# Altium schematic symbol library linear_motor.SCHLIB: 40 symbols
Pins are listed as number, name and electrical type; pins without a type are passive.

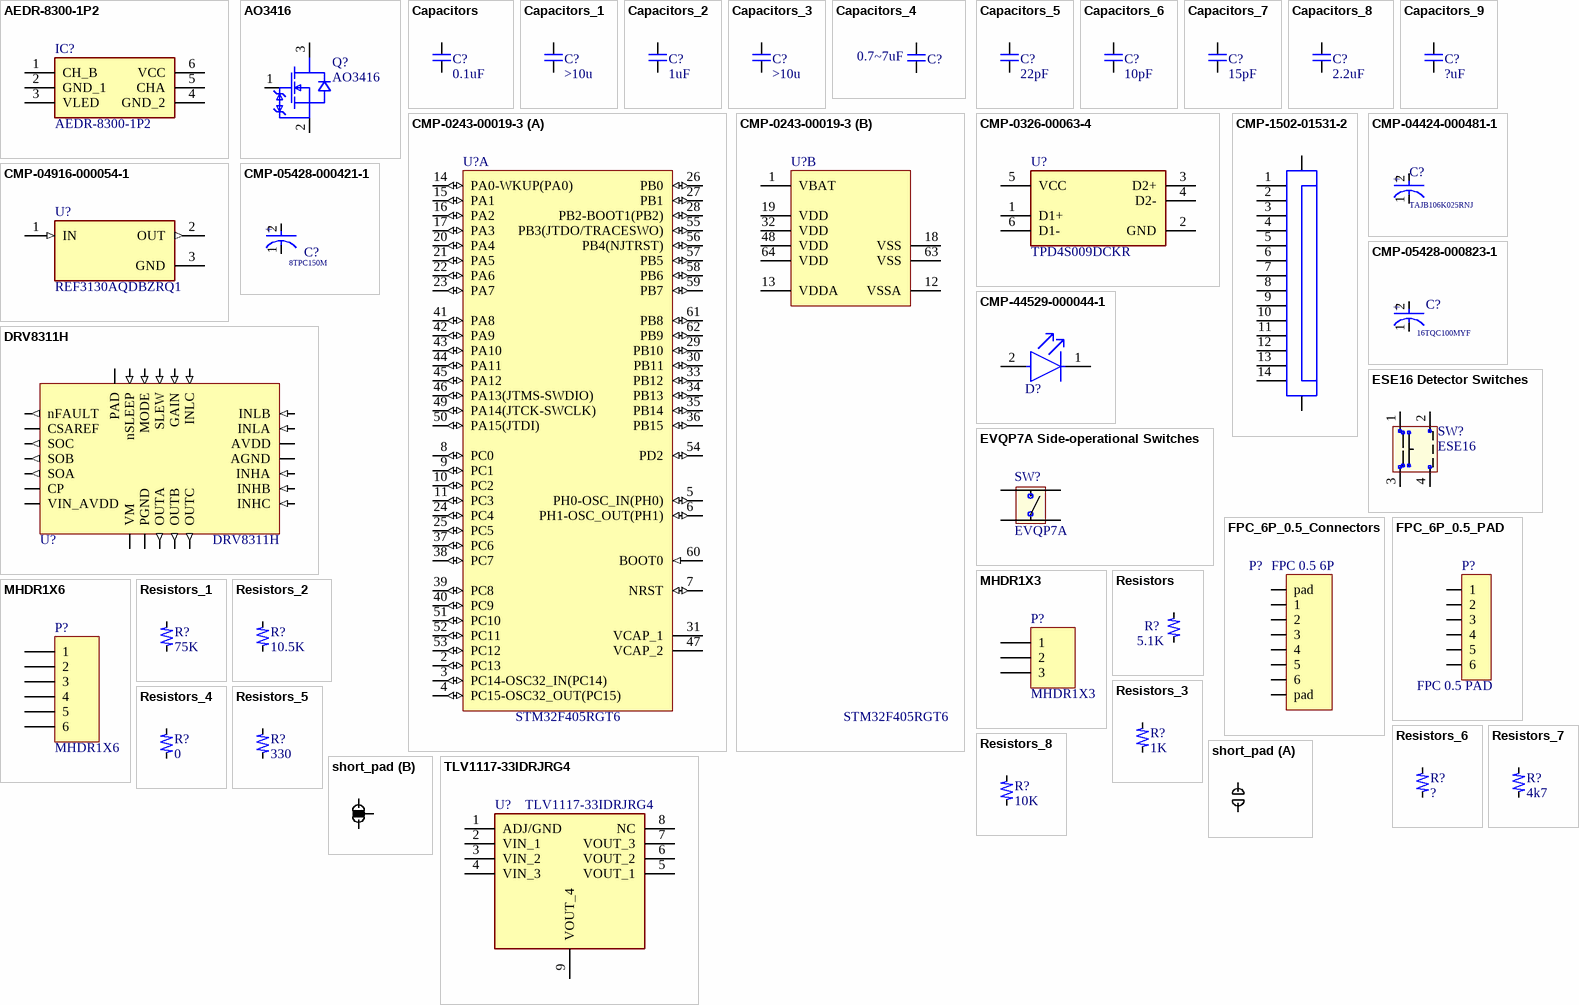
[diagram p0: symbols AEDR-8300-1P2 to TLV1117-33IDRJRG4]

## AEDR-8300-1P2
designator IC?
Integrated Circuit; Manufacturer_Name: Avago Technologies; Datasheet Link: https://docs.broadcom.com/docs/AV02-0088EN; Height: 1.78mm; Manufacturer_Part_Number: AEDR-8300-1P2; Mouser Part Number: 630-AEDR-8300-1P2; Mouser Price/Stock: https://www.mouser.com/Search/Refine.aspx?Keyword=630-AEDR-8300-1P2
footprint AEDR83001P2
pins: 1 CH_B, 2 GND_1, 3 VLED, 4 GND_2, 5 CHA, 6 VCC

## AO3416
designator Q?
footprint SOT23-3
pins: 1 G, 2 S, 3 D

## Capacitors
designator C?, comment 0.1uF
footprint 0201 R (1/20W)
footprint 0402 R (1/16W)
footprint 0603 R (1/10W)
footprint 0805 R (1/8W)
footprint 01005 R (1/32W)
footprint 1206 R (1/4W)
footprint 1210 R (1/2W)
footprint 1812 R (1/2W)
footprint 2010 R (3/4W)
footprint 2512 R (1W)
footprint 2.5 DIP CAP
pins: 1, 2

## Capacitors_1
designator C?, comment >10u
有極性電容
footprint 0201 R (1/20W)
footprint 0402 R (1/16W)
footprint 0603 R (1/10W)
footprint 0805 R (1/8W)
footprint 01005 R (1/32W)
footprint 1206 R (1/4W)
footprint 1210 R (1/2W)
footprint 1812 R (1/2W)
footprint 2010 R (3/4W)
footprint 2512 R (1W)
footprint 2.5 DIP CAP
pins: 1, 2

## Capacitors_2
designator C?, comment 1uF
footprint 0201 R (1/20W)
footprint 0402 R (1/16W)
footprint 0603 R (1/10W)
footprint 0805 R (1/8W)
footprint 01005 R (1/32W)
footprint 1206 R (1/4W)
footprint 1210 R (1/2W)
footprint 1812 R (1/2W)
footprint 2010 R (3/4W)
footprint 2512 R (1W)
footprint 2.5 DIP CAP
pins: 1, 2

## Capacitors_3
designator C?, comment >10u
footprint 0201 R (1/20W)
footprint 0402 R (1/16W)
footprint 0603 R (1/10W)
footprint 0805 R (1/8W)
footprint 01005 R (1/32W)
footprint 1206 R (1/4W)
footprint 1210 R (1/2W)
footprint 1812 R (1/2W)
footprint 2010 R (3/4W)
footprint 2512 R (1W)
footprint 2.5 DIP CAP
pins: 1, 2

## Capacitors_4
designator C?, comment 0.7~7uF
footprint 0201 R (1/20W)
footprint 0402 R (1/16W)
footprint 0603 R (1/10W)
footprint 0805 R (1/8W)
footprint 01005 R (1/32W)
footprint 1206 R (1/4W)
footprint 1210 R (1/2W)
footprint 1812 R (1/2W)
footprint 2010 R (3/4W)
footprint 2512 R (1W)
footprint 2.5 DIP CAP
pins: 1, 2

## Capacitors_5
designator C?, comment 22pF
footprint 0201 R (1/20W)
footprint 0402 R (1/16W)
footprint 0603 R (1/10W)
footprint 0805 R (1/8W)
footprint 01005 R (1/32W)
footprint 1206 R (1/4W)
footprint 1210 R (1/2W)
footprint 1812 R (1/2W)
footprint 2010 R (3/4W)
footprint 2512 R (1W)
footprint 2.5 DIP CAP
pins: 1, 2

## Capacitors_6
designator C?, comment 10pF
footprint 0201 R (1/20W)
footprint 0402 R (1/16W)
footprint 0603 R (1/10W)
footprint 0805 R (1/8W)
footprint 01005 R (1/32W)
footprint 1206 R (1/4W)
footprint 1210 R (1/2W)
footprint 1812 R (1/2W)
footprint 2010 R (3/4W)
footprint 2512 R (1W)
footprint 2.5 DIP CAP
pins: 1, 2

## Capacitors_7
designator C?, comment 15pF
footprint 0201 R (1/20W)
footprint 0402 R (1/16W)
footprint 0603 R (1/10W)
footprint 0805 R (1/8W)
footprint 01005 R (1/32W)
footprint 1206 R (1/4W)
footprint 1210 R (1/2W)
footprint 1812 R (1/2W)
footprint 2010 R (3/4W)
footprint 2512 R (1W)
footprint 2.5 DIP CAP
pins: 1, 2

## Capacitors_8
designator C?, comment 2.2uF
footprint 0201 R (1/20W)
footprint 0402 R (1/16W)
footprint 0603 R (1/10W)
footprint 0805 R (1/8W)
footprint 01005 R (1/32W)
footprint 1206 R (1/4W)
footprint 1210 R (1/2W)
footprint 1812 R (1/2W)
footprint 2010 R (3/4W)
footprint 2512 R (1W)
footprint 2.5 DIP CAP
pins: 1, 2

## Capacitors_9
designator C?, comment ?uF
footprint 0201 R (1/20W)
footprint 0402 R (1/16W)
footprint 0603 R (1/10W)
footprint 0805 R (1/8W)
footprint 01005 R (1/32W)
footprint 1206 R (1/4W)
footprint 1210 R (1/2W)
footprint 1812 R (1/2W)
footprint 2010 R (3/4W)
footprint 2512 R (1W)
footprint 2.5 DIP CAP
pins: 1, 2

## CMP-0243-00019-3
designator U?, comment STM32F405RGT6
ARM Cortex-M4 32-bit MCU+FPU, 210 DMIPS, 1024 kB Flash, 192 kB Internal RAM, 51 I/Os, 64-pin LQFP, -40 to 85 degC, Tray; Manufacturer: STMicroelectronics; Supply Voltage(Vcc) min (V): 1.8; Supply Voltage(Vcc) max (V): 3.6; Internal RAM Size (kB): 192; I/Os (High Current): 51; D/A Converter: 2x12-bit; FLASH Size (Prog) (kB): 1024; Operating Frequency(F) (Processor speed) (MHz): 168; ComponentLink2Description: Datasheet; PackageVersion: Rev. 4, 06/2013; DatasheetVersion: Rev. 4; Core: ARM Cortex-M4; ComponentLink2URL: http://www.st.com/st-web-ui/static/active/en/resource/technical/document/datasheet/DM00037051.pdf; PackageReference: LQFP64; Packing: Tray; ComponentLink1Description: Manufacturer URL; ComponentLink3URL: http://www.st.com/st-web-ui/static/active/en/resource/technical/document/datasheet/DM00037051.pdf; ComponentLink3Description: Package Specification; Mounting Technology: Surface Mount; ComponentLink1URL: http://www.st.com/web/en/home.html; PackageDescription: 64-Pin Low Profile Quad Flat Package, 10 x 10 mm Body, 0.5 mm Pitch; PartNumber: STM32F405RGT6; Manufacturer Part Number: STM32F405RGT6
footprint STM-LQFP64_M (Thin QFP, 64-Leads, Body 10x10mm, Pitch 0.5mm, IPC Low Density)
footprint STM-LQFP64_N (Thin QFP, 64-Leads, Body 10x10mm, Pitch 0.5mm, IPC Medium Density)
footprint STM-LQFP64_V (Thin QFP, 64-Leads, Body 10x10mm, Pitch 0.5mm, ST Recommended)
footprint STM-LQFP64_L (Thin QFP, 64-Leads, Body 10x10mm, Pitch 0.5mm, IPC High Density)
part A pins: 2 PC13 (io) "PC13/EVENTOUT/RTC_OUT,RTC_TAMP1,RTC_TS", 3 PC14-OSC32_IN(PC14) (io) "PC14-OSC32_IN(PC14)/EVENTOUT/OSC32_IN", 4 PC15-OSC32_OUT(PC15) (io) "PC15-OSC32_OUT(PC15)/EVENTOUT/OSC32_OUT", 5 PH0-OSC_IN(PH0) (io) "PH0-OSC_IN(PH0)/EVENTOUT/OSC_IN", 6 PH1-OSC_OUT(PH1) (io) "PH1-OSC_OUT(PH1)/EVENTOUT/OSC_OUT", 7 NRST (io), 8 PC0 (io) "PC0/OTG_HS_ULPI_STP/EVENTOUT/ADC123_IN10", 9 PC1 (io) "PC1/ETH_MDC/EVENTOUT/ADC123_IN11", 10 PC2 (io) "PC2/SPI2_MISO/OTG_HS_ULPI_DIR/ETH_MII_TXD2/I2S2ext_SD/EVENTOUT/ADC123_IN12", 11 PC3 (io) "PC3/SPI2_MOSI/I2S2_SD/OTG_HS_ULPI_NXT/ETH_MII_TX_CLK/EVENTOUT/ADC123_IN13", 14 PA0-WKUP(PA0) (io) "PA0-WKUP(PA0)/USART2_CTS/UART4_TX/ETH_MII_CRS/TIM2_CH1_ETR/TIM5_CH1/TIM8_ETR/EVENTOUT/ADC123_IN0/WKUP", 15 PA1 (io) "PA1/USART2_RTS/UART4_RX/ETH_RMII_REF_CLK/ETH_MII_RX_CLK/TIM5_CH2/TIM2_CH2/EVENTOUT/ADC123_IN1", 16 PA2 (io) "PA2/USART2_TX/TIM5_CH3/TIM9_CH1/TIM2_CH3/ETH_MDIO/EVENTOUT/ADC123_IN2", 17 PA3 (io) "PA3/USART2_RX/TIM5_CH4/TIM9_CH2/TIM2_CH4/OTG_HS_ULPI_D0/ETH_MII_COL/EVENTOUT/ADC123_IN3", 20 PA4 (io) "PA4/SPI1_NSS/SPI3_NSS/USART2_CK/DCMI_HSYNC/OTG_HS_SOF/I2S3_WS/EVENTOUT/ADC12_IN4/DAC_OUT1", 21 PA5 (io) "PA5/SPI1_SCK/OTG_HS_ULPI_CK/TIM2_CH1_ETR/TIM8_CH1N/EVENTOUT/ADC12_IN5/DAC_OUT2", 22 PA6 (io) "PA6/SPI1_MISO/TIM8_BKIN/TIM13_CH1/DCMI_PIXCLK/TIM3_CH1/TIM1_BKIN/EVENTOUT/ADC12_IN6", 23 PA7 (io) "PA7/SPI1_MOSI/TIM8_CH1N/TIM14_CH1/TIM3_CH2/ETH_MII_RX_DV/TIM1_CH1N/ETH_RMII_CRS_DV/EVENTOUT/ADC12_IN7", 24 PC4 (io) "PC4/ETH_RMII_RX_D0/ETH_MII_RX_D0/EVENTOUT/ADC12_IN14", 25 PC5 (io) "PC5/ETH_RMII_RX_D1/ETH_MII_RX_D1/EVENTOUT/ADC12_IN15", 26 PB0 (io) "PB0/TIM3_CH3/TIM8_CH2N/OTG_HS_ULPI_D1/ETH_MII_RXD2/TIM1_CH2N/EVENTOUT/ADC12_IN8", 27 PB1 (io) "PB1/TIM3_CH4/TIM8_CH3N/OTG_HS_ULPI_D2/ETH_MII_RXD3/TIM1_CH3N/EVENTOUT/ADC12_IN9", 28 PB2-BOOT1(PB2) (io) "PB2-BOOT1(PB2)/EVENTOUT", 29 PB10 (io) "PB10/SPI2_SCK/I2S2_CK/I2C2_SCL/USART3_TX/OTG_HS_ULPI_D3/ETH_MII_RX_ER/TIM2_CH3/EVENTOUT", 30 PB11 (io) "PB11/I2C2_SDA/USART3_RX/OTG_HS_ULPI_D4/ETH_RMII_TX_EN/ETH_MII_TX_EN/TIM2_CH4/EVENTOUT", 31 VCAP_1 (power), 33 PB12 (io) "PB12/SPI2_NSS/I2S2_WS/I2C2_SMBA/USART3_CK/TIM1_BKIN/CAN2_RX/OTG_HS_ULPI_D5/ETH_RMII_TXD0/ETH_MII_TXD0/OTG_HS_ID/EVENTOUT", 34 PB13 (io) "PB13/SPI2_SCK/I2S2_CK/USART3_CTS/TIM1_CH1N/CAN2_TX/OTG_HS_ULPI_D6/ETH_RMII_TXD1/ETH_MII_TXD1/EVENTOUT/OTG_HS_VBUS", 35 PB14 (io) "PB14/SPI2_MISO/TIM1_CH2N/TIM12_CH1/OTG_HS_DM/USART3_RTS/TIM8_CH2N/I2S2ext_SD/EVENTOUT", 36 PB15 (io) "PB15/SPI2_MOSI/I2S2_SD/TIM1_CH3N/TIM8_CH3N/TIM12_CH2/OTG_HS_DP/EVENTOUT/RTC_REFIN", 37 PC6 (io) "PC6/I2S2_MCK/TIM8_CH1/SDIO_D6/USART6_TX/DCMI_D0/TIM3_CH1/EVENTOUT", 38 PC7 (io) "PC7/I2S3_MCK/TIM8_CH2/SDIO_D7/USART6_RX/DCMI_D1/TIM3_CH2/EVENTOUT", 39 PC8 (io) "PC8/TIM8_CH3/SDIO_D0/TIM3_CH3/USART6_CK/DCMI_D2/EVENTOUT", 40 PC9 (io) "PC9/I2S_CKIN/MCO2/TIM8_CH4/SDIO_D1/I2C3_SDA/DCMI_D3/TIM3_CH4/EVENTOUT", 41 PA8 (io) "PA8/MCO1/USART1_CK/TIM1_CH1/I2C3_SCL/OTG_FS_SOF/EVENTOUT", 42 PA9 (io) "PA9/USART1_TX/TIM1_CH2/I2C3_SMBA/DCMI_D0/EVENTOUT/OTG_FS_VBUS", 43 PA10 (io) "PA10/USART1_RX/TIM1_CH3/OTG_FS_ID/DCMI_D1/EVENTOUT", 44 PA11 (io) "PA11/USART1_CTS/CAN1_RX/TIM1_CH4/OTG_FS_DM/EVENTOUT", 45 PA12 (io) "PA12/USART1_RTS/CAN1_TX/TIM1_ETR/OTG_FS_DP/EVENTOUT", 46 PA13(JTMS-SWDIO) (io) "PA13(JTMS-SWDIO)/JTMS-SWDIO/EVENTOUT", 47 VCAP_2 (power), 49 PA14(JTCK-SWCLK) (io) "PA14(JTCK-SWCLK)/JTCK-SWCLK/EVENTOUT", 50 PA15(JTDI) (io) "PA15(JTDI)/JTDI/SPI3_NSS/I2S3_WS/TIM2_CH1_ETR/SPI1_NSS/EVENTOUT", 51 PC10 (io) "PC10/SPI3_SCK/I2S3_CK/UART4_TX/SDIO_D2/DCMI_D8/USART3_TX/EVENTOUT", 52 PC11 (io) "PC11/UART4_RX/SPI3_MISO/SDIO_D3/DCMI_D4/USART3_RX/I2S3ext_SD/EVENTOUT", 53 PC12 (io) "PC12/UART5_TX/SDIO_CK/DCMI_D9/SPI3_MOSI/I2S3_SD/USART3_CK/EVENTOUT", 54 PD2 (io) "PD2/TIM3_ETR/UART5_RX/SDIO_CMD/DCMI_D11/EVENTOUT", 55 PB3(JTDO/TRACESWO) (io) "PB3(JTDO/TRACESWO)/JTDO/TRACESWO/SPI3_SCK/I2S3_CK/TIM2_CH2/SPI1_SCK/EVENTOUT", 56 PB4(NJTRST) (io) "PB4(NJTRST)/NJTRST/SPI3_MISO/TIM3_CH1/SPI1_MISO/I2S3ext_SD/EVENTOUT", 57 PB5 (io) "PB5/I2C1_SMBA/CAN2_RX/OTG_HS_ULPI_D7/ETH_PPS_OUT/TIM3_CH2/SPI1_MOSI/SPI3_MOSI/DCMI_D10/I2S3_SD/EVENTOUT", 58 PB6 (io) "PB6/I2C1_SCL/TIM4_CH1/CAN2_TX/DCMI_D5/USART1_TX/EVENTOUT", 59 PB7 (io) "PB7/I2C1_SDA/FSMC_NL/DCMI_VSYNC/USART1_RX/TIM4_CH2/EVENTOUT", 60 BOOT0 (in) "BOOT0/VPP", 61 PB8 (io) "PB8/TIM4_CH3/SDIO_D4/TIM10_CH1/DCMI_D6/ETH_MII_TXD3/I2C1_SCL/CAN1_RX/EVENTOUT", 62 PB9 (io) "PB9/SPI2_NSS/I2S2_WS/TIM4_CH4/TIM11_CH1/SDIO_D5/DCMI_D7/I2C1_SDA/CAN1_TX/EVENTOUT"
part B pins: 1 VBAT (power), 12 VSSA (power), 13 VDDA (power), 18 VSS (power), 19 VDD (power), 32 VDD (power), 48 VDD (power), 63 VSS (power), 64 VDD (power)

## CMP-0326-00063-4
designator U?, comment TPD4S009DCKR
TVS DIODE 5.5V SC70-6; Manufacturer: Texas Instruments; Number of Channels: 4; Operating Supply Voltage: 5V; Capacitance: 0.8pF; Breakdown Voltage: 9V; Max Power Dissipation: 25W; Interface: LVDS; Direction: Unidirectional; Power Line Protection: Yes; REACH SVHC: No SVHC; Max Operating Temperature: 85°C; Length: 2mm; Number of Bidirectional Channels: 4; Weight: 8.8E-05oz; Min Breakdown Voltage: 9V; Series: -; Package Quantity: 1; Number of Pins: 6; Depth: 1.25mm; Working Voltage: 5.5V; Case/Package: SC; Radiation Hardening: No; Packaging: Tape and Reel; Reverse Standoff Voltage: 5.5V; Min Operating Temperature: -40°C; Lead Free: Lead Free; Peak Pulse Power: 25W; RoHS Compliant: Yes; Height: 0.9mm; Manufacturer Part Number: TPD4S009DCKR
footprint FP-DCK0006A-IPC_A
footprint FP-DCK0006A-IPC_C
footprint FP-DCK0006A-IPC_B
footprint FP-DCK0006A-MFG
pins: 1 D1+, 2 GND (power), 3 D2+, 4 D2-, 5 VCC (power), 6 D1-

## CMP-1502-01531-2
designator J?, comment 68711414522  (value not drawn)
NexarPartId: 8917692; Manufacturer: Wurth Electronics; Contact Resistance: 20mΩ; Number of Positions: 14; Contact Location: Bottom; Operating Supply Voltage: 50V; Actuator Material: Liquid Crystal Polymer, Polymer; Pitch: 500µm; Current Rating: 500mA; Insulation Resistance: 100MΩ; Gender: Male; Number of Contacts: 14; Packaging: Tape and Reel; Number of Pins: 14; Termination: Solder; Contact Material: Bronze, Tin; Lead Pitch: 500µm; Contact Plating: Tin; Housing Material: Liquid Crystal Polymer; Flammability Rating: UL94 V-0; RoHS: Compliant; REACH SVHC: No SVHC; Orientation: Horizontal; Min Operating Temperature: -25°C; Width: 2.1mm; Max Operating Temperature: 85°C; Number of Rows: 1; Mount: Surface Mount; Length: 13.4mm; Voltage Rating: 50V; Manufacturer Part Number: 68711414522
footprint 68711414522 (687 Series 0.5mm Pitch 14 Way Straight SMT FPC Connector)
pins: 1, 2, 3, 4, 5, 6, 7, 8, 9, 10, 11, 12, 13, 14, M1, M2

## CMP-04424-000481-1
designator C?, comment TAJB106K025RNJ
10uF 25V  ±10% 2.5Ω 1210  SMD Tantalum Capacitor; Manufacturer: Kyocera AVX; ESR (Equivalent Series Resistance): 2.5R; Polarity: Polar; Dissipation Factor: 6%; Leakage Current: 2.5uA; Lead Free: Lead Free; Capacitance: 10uF; Voltage Rating: 25V; Mount: Surface Mount; Packaging: Tape and Reel; Min Operating Temperature: -55°C; Weight: 0.000564oz; Series: TAJ; Case/Package: 1210; Width: 0.11inch; Height - Seated (Max): 0.083inch; RoHS Compliant: Yes; Height: 2.1mm; Depth: 2.8mm; Radiation Hardening: No; Construction: Flat; Max Operating Temperature: 125°C; Voltage Rating (DC): 25V; Features: General Purpose; REACH SVHC: No SVHC; Tolerance: 10%; Package Quantity: 1; Case Code (Metric): 3528; Termination: SMD/SMT; Case Code (Imperial): 1210; Length: 3.5mm; Manufacturer Part Number: TAJB106K025RNJ
footprint FP-TAJB-MFG
pins: 1 C, 2 A
text: +

## CMP-04916-000054-1
designator U?, comment REF3130AQDBZRQ1
IC VREF SERIES 0.2% SOT23-3; Manufacturer: Texas Instruments; Case/Package: TO-236-3; Packaging: Tape and Reel; RoHS Compliant: Yes; Min Operating Temperature: -40°C; Mount: Surface Mount; Max Operating Temperature: 125°C; Manufacturer Part Number: REF3130AQDBZRQ1
footprint FP-DBZ0003A-IPC_B
footprint FP-DBZ0003A-MFG
footprint FP-DBZ0003A-IPC_C
footprint FP-DBZ0003A-IPC_A
pins: 1 IN (in), 2 OUT (out), 3 GND (power)

## CMP-05428-000421-1
designator C?, comment 8TPC150M
Molded Tantalum Polymer Capacitor 150uF 20% 8V life 2000Hours SMD 2917; Manufacturer: Panasonic; Ripple Current: 1.9A; Polarity: Polar; Dissipation Factor: 10%; ESR (Equivalent Series Resistance): 40mR; Leakage Current: 120uA; Capacitance: 150uF; Voltage Rating: 8V; Tolerance: 20%; Min Operating Temperature: -55°C; Lead Free: Lead Free; Package Quantity: 3000; Packaging: Tape and Reel; Case Code (Metric): 7343; Width: 4.3mm; Case Code (Imperial): 2917; Height: 1.9mm; Height - Seated (Max): 0.079inch; Construction: Flat; Number of Pins: 2; Series: POSCAP™ TPC; REACH SVHC: No SVHC; Radiation Hardening: No; Termination: SMD/SMT; Voltage Rating (DC): 8V; Voltage: 8V; Length: 7.3mm; RoHS Compliant: Yes; Features: General Purpose; Case/Package: 2917; Depth: 4.3mm; Mount: Surface Mount; Max Operating Temperature: 105°C; Manufacturer Part Number: 8TPC150M
footprint FP-POSCAP-D2-MFG
pins: 1 C, 2 A
text: +

## CMP-05428-000823-1
designator C?, comment 16TQC100MYF
Molded Tantalum Polymer Capacitor 100uF 20% 16V life 2000Hours SMD 2917; Manufacturer: Panasonic; Ripple Current: 1.8A; ESR (Equivalent Series Resistance): 50mR; Dissipation Factor: 10%; Polarity: Polar; Leakage Current: 160uA; Voltage: 16V; Min Operating Temperature: -55°C; Width: 4.3mm; Package Quantity: 3000; Construction: Flat; Life (Hours): 2000Hour; Packaging: Tape and Reel; Height: 1.9mm; Radiation Hardening: No; Depth: 4.3mm; Features: General Purpose; RoHS Compliant: Yes; Voltage Rating (DC): 16V; Tolerance: 20%; Capacitance: 100uF; Case Code (Metric): 7343; Length: 7.3mm; Case Code (Imperial): 2917; Number of Pins: 2; Mount: Surface Mount; Series: POSCAP™ TQC; Height - Seated (Max): 0.079inch; Lead Free: Lead Free; Termination: SMD/SMT; REACH SVHC: No SVHC; Case/Package: 2917; Voltage Rating: 16V; Material: Polymer; Max Operating Temperature: 105°C; Manufacturer Part Number: 16TQC100MYF
footprint FP-POSCAP-D2-MFG
pins: 1 C, 2 A
text: +

## CMP-44529-000044-1
designator D?, comment APHHS1005CGCK  (value not drawn)
LED GREEN CLEAR CHIP SMD; Manufacturer: Kingbright; Viewing Angle: 120°; Dominant Wavelength: 570nm; Test Current: 20mA; Luminous Intensity: 50mcd; Forward Voltage: 2.1V; Number of LEDs: 1; Lens Color: Clear; Packaging: Tape and Reel; Max Operating Temperature: 85°C; Illumination Color: Green; Length: 1mm; Mount: Surface Mount; Lens Style: Clear; Color: Green; Number of Pins: 2; Wavelength: 570nm; Case/Package: 0402; Width: 0.5mm; Package Quantity: 2000; Case Code (Metric): 1005; Height: 0.6mm; Lead Free: Lead Free; Case Code (Imperial): 0402; Forward Current: 20mA; Min Operating Temperature: -40°C; Manufacturer Part Number: APHHS1005CGCK
footprint FP-APHHS1005CGCK-MFG
pins: 1 C, 2 A

## DRV8311H
designator U?
footprint WQFN24
pins: 1 nFAULT (out), 2 CSAREF, 3 SOC (out), 4 SOB (out), 5 SOA (out), 6 CP, 7 VIN_AVDD, 8 VM, 9 PGND, 10 OUTA (out), 11 OUTB (out), 12 OUTC (out), 13 INHC (in), 14 INHB (in), 15 INHA (in), 16 AGND, 17 AVDD, 18 INLA (in), 19 INLB (in), 20 INLC (in), 21 GAIN (in), 22 SLEW (in), 23 MODE (in), 24 nSLEEP (in), 25 PAD

## ESE16 Detector Switches
designator SW?, comment ESE16
footprint ESE16 Switches
pins: 1 Com_N.O, 2 Dummy_N.C, 3 Separate_N.O, 4 Dummy_N.C

## EVQP7A Side-operational Switches
designator SW?, comment EVQP7A
footprint EVQP7A (3.5 mm×2.9 mm  SMD   Touch Switches)
footprint EVQP7A - duplicate (3.5 mm×2.9 mm  SMD   Touch Switches)
pins: 1, 2, 3, 4

## FPC_6P_0.5_Connectors
designator P?, comment FPC 0.5 6P
footprint FPC 6P 0.5mm
pins: 0 pad, 1, 2, 3, 4, 5, 6, 7 pad

## FPC_6P_0.5_PAD
designator P?, comment FPC 0.5 PAD
footprint FPC 6P 0.5mm PAD
pins: 1, 2, 3, 4, 5, 6

## MHDR1X3
designator P?
Header, 3-Pin; LatestRevisionDate: 17-Jul-2002; LatestRevisionNote: Re-released for DXP Platform.; Publisher: Altium Limited
footprint MHDR1X3 (Connector; Header; 3 Position)
signal-integrity model Connector
pins: 1, 2, 3

## MHDR1X6
designator P?
Header, 6-Pin; LatestRevisionDate: 17-Jul-2002; LatestRevisionNote: Re-released for DXP Platform.; Publisher: Altium Limited
footprint MHDR1X6 (Connector; Header; 6 Position)
signal-integrity model Connector
pins: 1, 2, 3, 4, 5, 6

## Resistors
designator R?, comment 5.1K
footprint 0201 R (1/20W)
footprint 0402 R (1/16W)
footprint 0603 R (1/10W)
footprint 0805 R (1/8W)
footprint 01005 R (1/32W)
footprint 1206 R (1/4W)
footprint 1210 R (1/2W)
footprint 1812 R (1/2W)
footprint 2010 R (3/4W)
footprint 2512 R (1W)
pins: 1, 2

## Resistors_1
designator R?, comment 75K
footprint 0201 R (1/20W)
footprint 0402 R (1/16W)
footprint 0603 R (1/10W)
footprint 0805 R (1/8W)
footprint 01005 R (1/32W)
footprint 1206 R (1/4W)
footprint 1210 R (1/2W)
footprint 1812 R (1/2W)
footprint 2010 R (3/4W)
footprint 2512 R (1W)
pins: 1, 2

## Resistors_2
designator R?, comment 10.5K
footprint 0201 R (1/20W)
footprint 0402 R (1/16W)
footprint 0603 R (1/10W)
footprint 0805 R (1/8W)
footprint 01005 R (1/32W)
footprint 1206 R (1/4W)
footprint 1210 R (1/2W)
footprint 1812 R (1/2W)
footprint 2010 R (3/4W)
footprint 2512 R (1W)
pins: 1, 2

## Resistors_3
designator R?, comment 1K
footprint 0201 R (1/20W)
footprint 0402 R (1/16W)
footprint 0603 R (1/10W)
footprint 0805 R (1/8W)
footprint 01005 R (1/32W)
footprint 1206 R (1/4W)
footprint 1210 R (1/2W)
footprint 1812 R (1/2W)
footprint 2010 R (3/4W)
footprint 2512 R (1W)
pins: 1, 2

## Resistors_4
designator R?, comment 0
footprint 0201 R (1/20W)
footprint 0402 R (1/16W)
footprint 0603 R (1/10W)
footprint 0805 R (1/8W)
footprint 01005 R (1/32W)
footprint 1206 R (1/4W)
footprint 1210 R (1/2W)
footprint 1812 R (1/2W)
footprint 2010 R (3/4W)
footprint 2512 R (1W)
pins: 1, 2

## Resistors_5
designator R?, comment 330
footprint 0201 R (1/20W)
footprint 0402 R (1/16W)
footprint 0603 R (1/10W)
footprint 0805 R (1/8W)
footprint 01005 R (1/32W)
footprint 1206 R (1/4W)
footprint 1210 R (1/2W)
footprint 1812 R (1/2W)
footprint 2010 R (3/4W)
footprint 2512 R (1W)
pins: 1, 2

## Resistors_6
designator R?, comment ?
footprint 0201 R (1/20W)
footprint 0402 R (1/16W)
footprint 0603 R (1/10W)
footprint 0805 R (1/8W)
footprint 01005 R (1/32W)
footprint 1206 R (1/4W)
footprint 1210 R (1/2W)
footprint 1812 R (1/2W)
footprint 2010 R (3/4W)
footprint 2512 R (1W)
pins: 1, 2

## Resistors_7
designator R?, comment 4k7
footprint 0201 R (1/20W)
footprint 0402 R (1/16W)
footprint 0603 R (1/10W)
footprint 0805 R (1/8W)
footprint 01005 R (1/32W)
footprint 1206 R (1/4W)
footprint 1210 R (1/2W)
footprint 1812 R (1/2W)
footprint 2010 R (3/4W)
footprint 2512 R (1W)
pins: 1, 2

## Resistors_8
designator R?, comment 10K
footprint 0201 R (1/20W)
footprint 0402 R (1/16W)
footprint 0603 R (1/10W)
footprint 0805 R (1/8W)
footprint 01005 R (1/32W)
footprint 1206 R (1/4W)
footprint 1210 R (1/2W)
footprint 1812 R (1/2W)
footprint 2010 R (3/4W)
footprint 2512 R (1W)
pins: 1, 2

## short_pad
designator SP?  (value not drawn)
footprint short_pad
footprint short_pad_2
footprint short_pad_3
part A pins: 1, 2
part B pins: 1, 2, 3

## TLV1117-33IDRJRG4
designator U?
Integrated Circuit; Manufacturer_Name: Texas Instruments; Datasheet Link: https://www.ti.com/lit/ds/symlink/tlv1117.pdf?HQS=dis-mous-null-mousermode-dsf-pf-null-wwe&ts=1631014360832&ref_url=https%253A%252F%252Fwww.mouser.co.uk%252F; Height: 0.8mm; Manufacturer_Part_Number: TLV1117-33IDRJRG4; Mouser Part Number: 595-TLV111733IDRJRG4; Mouser Price/Stock: https://www.mouser.com/Search/Refine.aspx?Keyword=595-TLV111733IDRJRG4
footprint SON80P400X400X80-9N-D
pins: 1 ADJ/GND, 2 VIN_1, 3 VIN_2, 4 VIN_3, 5 VOUT_1, 6 VOUT_2, 7 VOUT_3, 8 NC, 9 VOUT_4

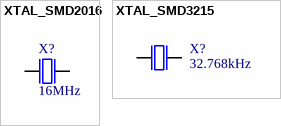
[diagram p1: symbols XTAL_SMD2016 to XTAL_SMD3215]

## XTAL_SMD2016
designator X?, comment 16MHz
XTAL SMD 2016, 12MHz, Cl=8pF, Total Tol: ±40ppm; Part Number: XTAL_SMD2016_32MHz_8pF_Epson; Manufacturer: Epson Toyocom; Manufacturer Part Number: Q22FA12800025; Value: 32MHz; Note: XTAL SMD 32.000MHz; Artikkelnr Noca: N.A.; Datasheet: http://www.epsondevice.com/docs/qd/en/DownloadServlet?id=ID000449; LatestRevisionDate: 2014-11-27; Pin Count: 4; Publisher: Nordic Semiconductor; Published: 2012-03-09; Supplier: Farnell; Supplier part number: 171-2806; 2nd source Supplier: *; 2nd source part number: *; Footprint Doc: XTAL_2016; Artikkelnr Simpro: N.A.
footprint BT-XTAL_2016
pins: 1 inp, 2 GND hidden to GND, 3 out, 4 GND hidden to GND

## XTAL_SMD3215
designator X?, comment 32.768kHz
XTAL SMD 3215, 32.768kHz, Cl=9pF, Total Tol: ±50ppm; Part Number: XTAL_FC-135 32.768k; Manufacturer: Epson Toyocom; Manufacturer Part Number: FC-135 32.768KHZ ±20PPM,9.0PF; 2nd source part number: 127-8037; Note: XTAL SMD 32.768kHz, 3215; Artikkelnr Noca: 22019091; Artikkelnr Simpro: N.A.; Datasheet: http://www.farnell.com/datasheets/57480.pdf; LatestRevisionDate: 2014-03-27; Pin Count: 2; Publisher: Nordic Semiconductor; Published: 2010-10-18; Value: 32.768kHz; Supplier: Digi-Key; Supplier part number: FC-135 32.7680KA-AC-ND; 2nd source Supplier: Farnell; Footprint Doc: XTAL_3215
footprint XTAL_3215
pins: 1 inp, 2 out